# Altium integrated library TI_Logic_Universal_Bus_Function.IntLib: 113 symbols (part 2 of 5)
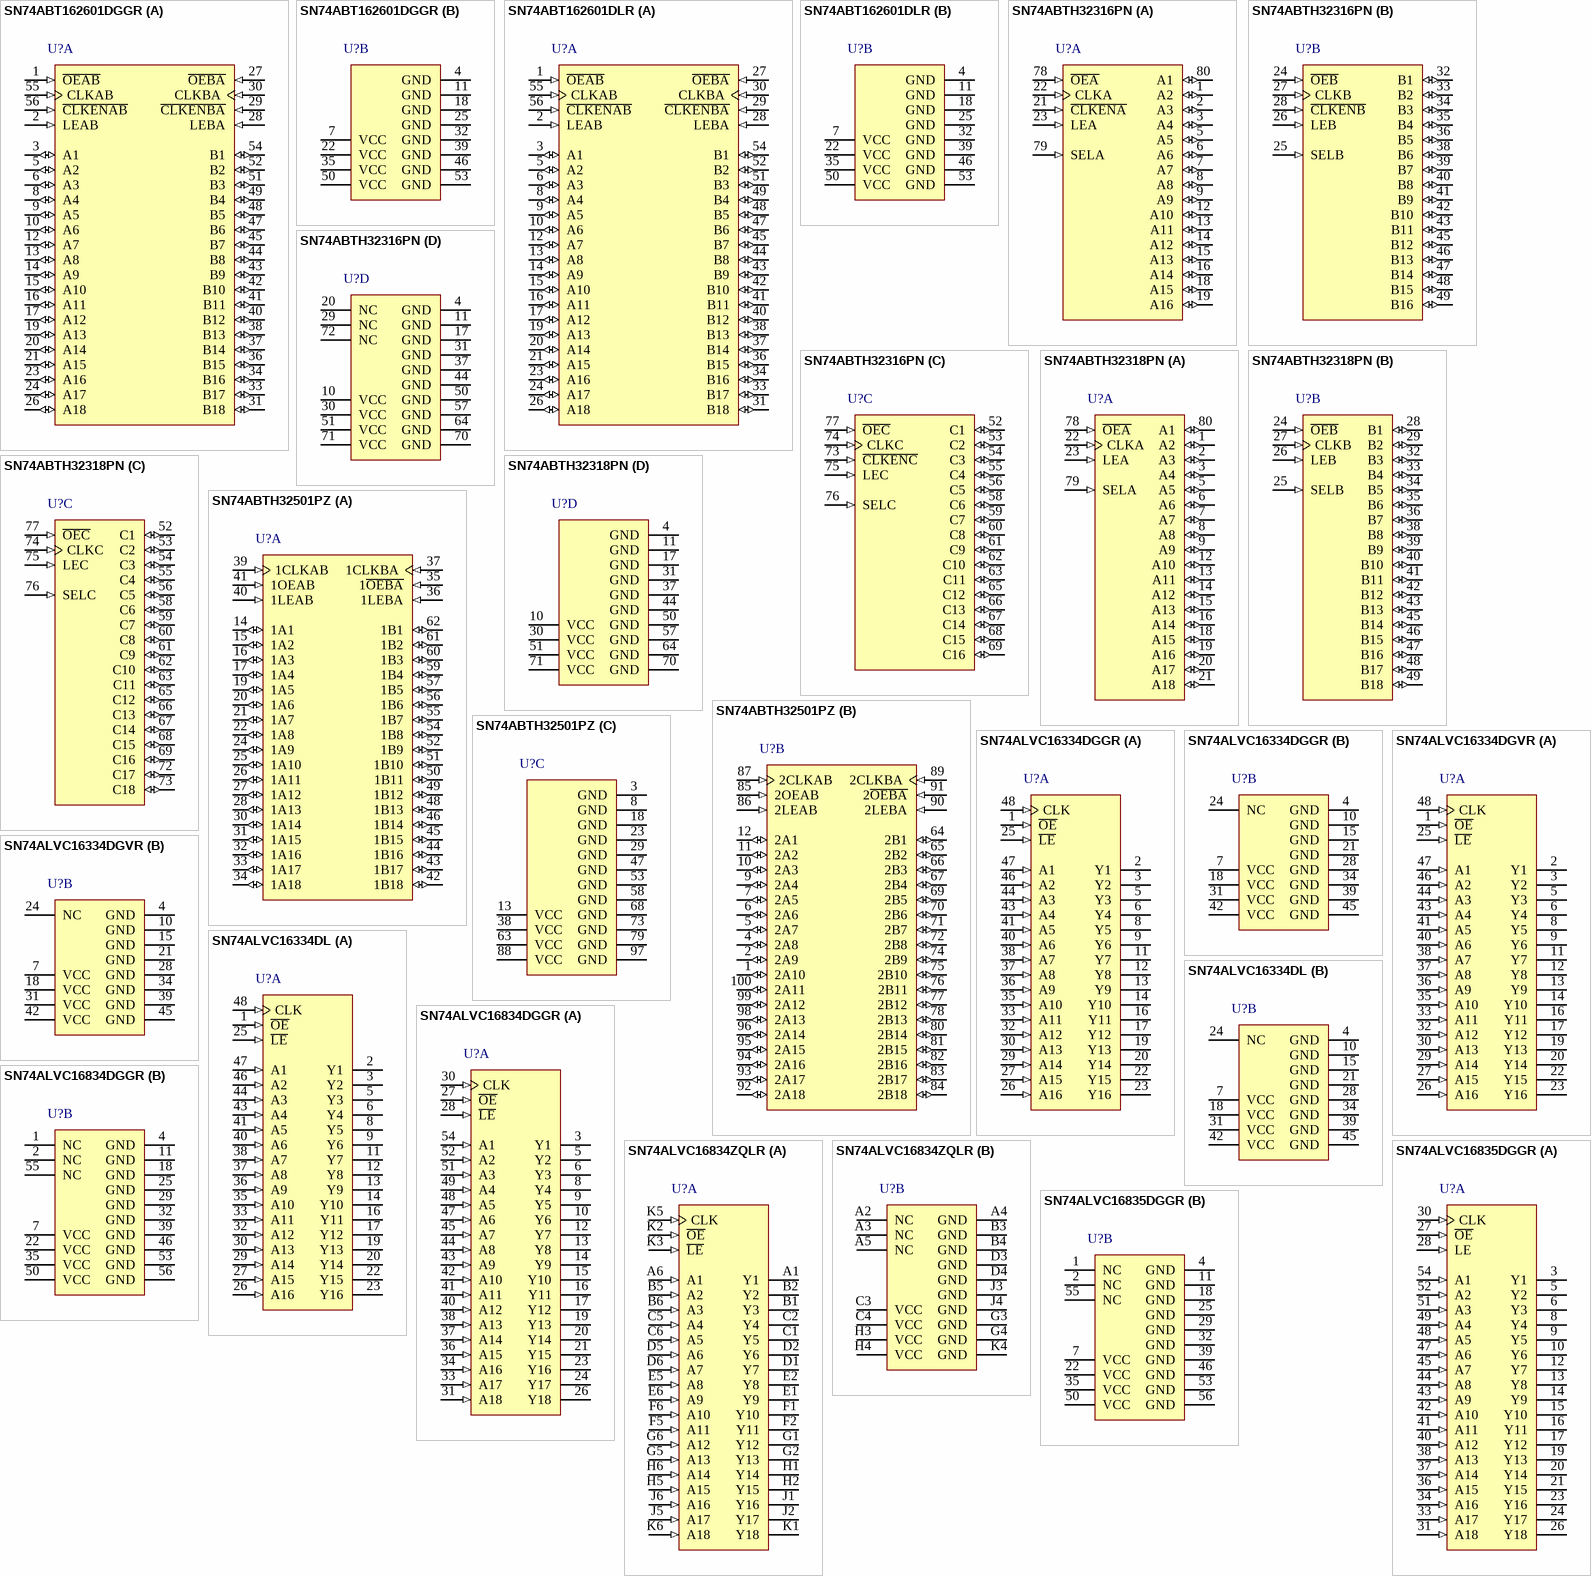
[diagram p10: symbols SN74ABT162601DGGR to SN74ALVC16835DGGR]

## SN74ABT162601DLR
designator U?
18-Bit Universal Bus Transceivers With 3-State Outputs, DL0056A, LARGE T&R; Generic Part Number: SN74ABT162601; Manufacturer: Texas Instruments; PartNumber: SN74ABT162601DLR; VCC(Min)(V): 4.5; VCC(Max)(V): 5.5; Output Type: TTL; Logic: True; Static Current: 19.5; ICC @ Nom Voltage(Max)(mA): 36; Bits(#): 18; F @ Nom Voltage(Max)(Mhz): 150; Rating: Catalog; Technology Family: ABT; Voltage(Nom)(V): 5; Schmitt Trigger: No; Output Drive (IOL/IOH)(Max)(mA): -32/64; tpd @ Nom Voltage(Max)(ns): 5.7; DatasheetVersion: SCBS247G; PackageReference: DL0056A; Supplier 1: Mouser; Supplier Part Number 1: 595-SN74ABT162601DLR; Supplier 2: Digi-Key; Supplier Part Number 2: 296-1028-2-ND; Supplier 3: Digi-Key; Supplier Part Number 3: 296-1028-1-ND; Supplier 4: Digi-Key; Supplier Part Number 4: 296-1028-6-ND; Input Type: TTL; Operating Temperature Range(C): -40 to 85; ComponentLink1Description: Manufacturer URL; ComponentLink1URL: http://www.ti.com/; ComponentLink2Description: Datasheet; ComponentLink2URL: http://www.ti.com/lit/ds/symlink/sn74abt162601.pdf
footprint DL0056A_N (SOP, 56-Leads, Body 7.6x18.5mm, Pitch 0.635mm, IPC Medium Density)
footprint DL0056A_M (SOP, 56-Leads, Body 7.6x18.5mm, Pitch 0.635mm, IPC Low Density)
footprint DL0056A_L (SOP, 56-Leads, Body 7.6x18.5mm, Pitch 0.635mm, IPC High Density)
part A pins: 1 ~{OEAB} (in), 2 LEAB (in), 3 A1 (io), 5 A2 (io), 6 A3 (io), 8 A4 (io), 9 A5 (io), 10 A6 (io), 12 A7 (io), 13 A8 (io), 14 A9 (io), 15 A10 (io), 16 A11 (io), 17 A12 (io), 19 A13 (io), 20 A14 (io), 21 A15 (io), 23 A16 (io), 24 A17 (io), 26 A18 (io), 27 ~{OEBA} (in), 28 LEBA (in), 29 ~{CLKENBA} (in), 30 CLKBA (in), 31 B18 (io), 33 B17 (io), 34 B16 (io), 36 B15 (io), 37 B14 (io), 38 B13 (io), 40 B12 (io), 41 B11 (io), 42 B10 (io), 43 B9 (io), 44 B8 (io), 45 B7 (io), 47 B6 (io), 48 B5 (io), 49 B4 (io), 51 B3 (io), 52 B2 (io), 54 B1 (io), 55 CLKAB (in), 56 ~{CLKENAB} (in)
part B pins: 4 GND (power), 7 VCC (power), 11 GND (power), 18 GND (power), 22 VCC (power), 25 GND (power), 32 GND (power), 35 VCC (power), 39 GND (power), 46 GND (power), 50 VCC (power), 53 GND (power)

## SN74ABTH32316PN
designator U?
16-Bit Tri-Port Universal Bus Exchangers, PN0080A, JEDEC TRAY (10+1); Generic Part Number: SN74ABTH32316; Manufacturer: Texas Instruments; PartNumber: SN74ABTH32316PN; VCC(Min)(V): 4.5; VCC(Max)(V): 5.5; Output Type: TTL; ICC @ Nom Voltage(Max)(mA): 40; Bits(#): 16; F @ Nom Voltage(Max)(Mhz): 150; Rating: Catalog; DatasheetVersion: SCBS179E; PackageReference: PN0080A; Input Type: TTL; Operating Temperature Range(C): -40 to 85; Code_JEDEC: MS-026; ComponentLink1Description: Manufacturer URL; ComponentLink1URL: http://www.ti.com/; ComponentLink2Description: Datasheet; ComponentLink2URL: http://www.ti.com/lit/ds/symlink/sn74abth32316.pdf; ComponentLink3Description: Package Specification; ComponentLink3URL: http://www.ti.com/lit/ml/mtqf010a/mtqf010a.pdf
footprint PN0080A_N (QFP, 80-Leads, Body 12x12mm, Pitch 0.5mm, IPC Medium Density)
footprint PN0080A_M (QFP, 80-Leads, Body 12x12mm, Pitch 0.5mm, IPC Low Density)
footprint PN0080A_L (QFP, 80-Leads, Body 12x12mm, Pitch 0.5mm, IPC High Density)
part A pins: 1 A2 (io), 2 A3 (io), 3 A4 (io), 5 A5 (io), 6 A6 (io), 7 A7 (io), 8 A8 (io), 9 A9 (io), 12 A10 (io), 13 A11 (io), 14 A12 (io), 15 A13 (io), 16 A14 (io), 18 A15 (io), 19 A16 (io), 21 ~{CLKENA} (in), 22 CLKA (in), 23 LEA (in), 78 ~{OEA} (in), 79 SELA (in), 80 A1 (io)
part B pins: 24 ~{OEB} (in), 25 SELB (in), 26 LEB (in), 27 CLKB (in), 28 ~{CLKENB} (in), 32 B1 (io), 33 B2 (io), 34 B3 (io), 35 B4 (io), 36 B5 (io), 38 B6 (io), 39 B7 (io), 40 B8 (io), 41 B9 (io), 42 B10 (io), 43 B11 (io), 45 B12 (io), 46 B13 (io), 47 B14 (io), 48 B15 (io), 49 B16 (io)
part C pins: 52 C1 (io), 53 C2 (io), 54 C3 (io), 55 C4 (io), 56 C5 (io), 58 C6 (io), 59 C7 (io), 60 C8 (io), 61 C9 (io), 62 C10 (io), 63 C11 (io), 65 C12 (io), 66 C13 (io), 67 C14 (io), 68 C15 (io), 69 C16 (io), 73 ~{CLKENC} (in), 74 CLKC (in), 75 LEC (in), 76 SELC (in), 77 ~{OEC} (in)
part D pins: 4 GND (power), 10 VCC (power), 11 GND (power), 17 GND (power), 20 NC, 29 NC, 30 VCC (power), 31 GND (power), 37 GND (power), 44 GND (power), 50 GND (power), 51 VCC (power), 57 GND (power), 64 GND (power), 70 GND (power), 71 VCC (power), 72 NC

## SN74ABTH32318PN
designator U?
18-Bit Tri-Port Universal Bus Exchanger, PN0080A, JEDEC TRAY (10+1); Generic Part Number: SN74ABTH32318; Manufacturer: Texas Instruments; PartNumber: SN74ABTH32318PN; VCC(Min)(V): 4.5; VCC(Max)(V): 5.5; Output Type: TTL; ICC @ Nom Voltage(Max)(mA): 45; Bits(#): 18; F @ Nom Voltage(Max)(Mhz): 150; Rating: Catalog; DatasheetVersion: SCBS180E; PackageReference: PN0080A; Input Type: TTL; Operating Temperature Range(C): -40 to 85; Code_JEDEC: MS-026; ComponentLink1Description: Manufacturer URL; ComponentLink1URL: http://www.ti.com/; ComponentLink2Description: Datasheet; ComponentLink2URL: http://www.ti.com/lit/ds/symlink/sn74abth32318.pdf; ComponentLink3Description: Package Specification; ComponentLink3URL: http://www.ti.com/lit/ml/mtqf010a/mtqf010a.pdf
footprint PN0080A_N (QFP, 80-Leads, Body 12x12mm, Pitch 0.5mm, IPC Medium Density)
footprint PN0080A_M (QFP, 80-Leads, Body 12x12mm, Pitch 0.5mm, IPC Low Density)
footprint PN0080A_L (QFP, 80-Leads, Body 12x12mm, Pitch 0.5mm, IPC High Density)
part A pins: 1 A2 (io), 2 A3 (io), 3 A4 (io), 5 A5 (io), 6 A6 (io), 7 A7 (io), 8 A8 (io), 9 A9 (io), 12 A10 (io), 13 A11 (io), 14 A12 (io), 15 A13 (io), 16 A14 (io), 18 A15 (io), 19 A16 (io), 20 A17 (io), 21 A18 (io), 22 CLKA (in), 23 LEA (in), 78 ~{OEA} (in), 79 SELA (in), 80 A1 (io)
part B pins: 24 ~{OEB} (in), 25 SELB (in), 26 LEB (in), 27 CLKB (in), 28 B1 (io), 29 B2 (io), 32 B3 (io), 33 B4 (io), 34 B5 (io), 35 B6 (io), 36 B7 (io), 38 B8 (io), 39 B9 (io), 40 B10 (io), 41 B11 (io), 42 B12 (io), 43 B13 (io), 45 B14 (io), 46 B15 (io), 47 B16 (io), 48 B17 (io), 49 B18 (io)
part C pins: 52 C1 (io), 53 C2 (io), 54 C3 (io), 55 C4 (io), 56 C5 (io), 58 C6 (io), 59 C7 (io), 60 C8 (io), 61 C9 (io), 62 C10 (io), 63 C11 (io), 65 C12 (io), 66 C13 (io), 67 C14 (io), 68 C15 (io), 69 C16 (io), 72 C17 (io), 73 C18 (io), 74 CLKC (in), 75 LEC (in), 76 SELC (in), 77 ~{OEC} (in)
part D pins: 4 GND (power), 10 VCC (power), 11 GND (power), 17 GND (power), 30 VCC (power), 31 GND (power), 37 GND (power), 44 GND (power), 50 GND (power), 51 VCC (power), 57 GND (power), 64 GND (power), 70 GND (power), 71 VCC (power)

## SN74ABTH32501PZ
designator U?
36-Bit Universal Bus Transceivers With 3-State Outputs, PZT0100A, JEDEC TRAY (5+1); Generic Part Number: SN74ABTH32501; Manufacturer: Texas Instruments; PartNumber: SN74ABTH32501PZ; Output Type: TTL; ICC @ Nom Voltage(Max)(mA): 90; Bits(#): 36; F @ Nom Voltage(Max)(Mhz): 150; Rating: Catalog; Technology Family: ABT; Voltage(Nom)(V): 5; Schmitt Trigger: No; Output Drive (IOL/IOH)(Max)(mA): -32/64; tpd @ Nom Voltage(Max)(ns): 5.4; DatasheetVersion: SCBS229F; PackageReference: PZT0100A; Supplier 1: Mouser; Supplier Part Number 1: 595-SN74ABTH32501PZ; Supplier 2: Digi-Key; Supplier Part Number 2: 296-1448-5-ND; Input Type: TTL; Operating Temperature Range(C): -40 to 85; ComponentLink1Description: Manufacturer URL; ComponentLink1URL: http://www.ti.com/; ComponentLink2Description: Datasheet; ComponentLink2URL: http://www.ti.com/lit/ds/symlink/sn74abth32501.pdf
footprint PZT0100A_N (QFP, 100-Leads, Body 14x14mm, Pitch 0.5mm, IPC Medium Density)
footprint PZT0100A_M (QFP, 100-Leads, Body 14x14mm, Pitch 0.5mm, IPC Low Density)
footprint PZT0100A_L (QFP, 100-Leads, Body 14x14mm, Pitch 0.5mm, IPC High Density)
part A pins: 14 1A1 (io), 15 1A2 (io), 16 1A3 (io), 17 1A4 (io), 19 1A5 (io), 20 1A6 (io), 21 1A7 (io), 22 1A8 (io), 24 1A9 (io), 25 1A10 (io), 26 1A11 (io), 27 1A12 (io), 28 1A13 (io), 30 1A14 (io), 31 1A15 (io), 32 1A16 (io), 33 1A17 (io), 34 1A18 (io), 35 1~{OEBA} (in), 36 1LEBA (in), 37 1CLKBA (in), 39 1CLKAB (in), 40 1LEAB (in), 41 1OEAB (in), 42 1B18 (io), 43 1B17 (io), 44 1B16 (io), 45 1B15 (io), 46 1B14 (io), 48 1B13 (io), 49 1B12 (io), 50 1B11 (io), 51 1B10 (io), 52 1B9 (io), 54 1B8 (io), 55 1B7 (io), 56 1B6 (io), 57 1B5 (io), 59 1B4 (io), 60 1B3 (io), 61 1B2 (io), 62 1B1 (io)
part B pins: 1 2A10 (io), 2 2A9 (io), 4 2A8 (io), 5 2A7 (io), 6 2A6 (io), 7 2A5 (io), 9 2A4 (io), 10 2A3 (io), 11 2A2 (io), 12 2A1 (io), 64 2B1 (io), 65 2B2 (io), 66 2B3 (io), 67 2B4 (io), 69 2B5 (io), 70 2B6 (io), 71 2B7 (io), 72 2B8 (io), 74 2B9 (io), 75 2B10 (io), 76 2B11 (io), 77 2B12 (io), 78 2B13 (io), 80 2B14 (io), 81 2B15 (io), 82 2B16 (io), 83 2B17 (io), 84 2B18 (io), 85 2OEAB (in), 86 2LEAB (in), 87 2CLKAB (in), 89 2CLKBA (in), 90 2LEBA (in), 91 2~{OEBA} (in), 92 2A18 (io), 93 2A17 (io), 94 2A16 (io), 95 2A15 (io), 96 2A14 (io), 98 2A13 (io), 99 2A12 (io), 100 2A11 (io)
part C pins: 3 GND (power), 8 GND (power), 13 VCC (power), 18 GND (power), 23 GND (power), 29 GND (power), 38 VCC (power), 47 GND (power), 53 GND (power), 58 GND (power), 63 VCC (power), 68 GND (power), 73 GND (power), 79 GND (power), 88 VCC (power), 97 GND (power)

## SN74ALVC16334DGGR
designator U?
16-Bit Universal Bus Driver With 3-State Outputs, DGG0048A, LARGE T&R; Generic Part Number: SN74ALVC16334; Manufacturer: Texas Instruments; PartNumber: SN74ALVC16334DGGR; VCC(Min)(V): 1.65; VCC(Max)(V): 3.6; Output Type: CMOS; ICC @ Nom Voltage(Max)(mA): 0.04; Bits(#): 16; F @ Nom Voltage(Max)(Mhz): 150; Rating: Catalog; Technology Family: ALVC; Voltage(Nom)(V): 1.8,2.5,2.7,3.3; DatasheetVersion: SCES128E; PackageReference: DGG0048A; Input Type: CMOS; Operating Temperature Range(C): -40 to 85; Code_JEDEC: MO-153; ComponentLink1Description: Manufacturer URL; ComponentLink1URL: http://www.ti.com/; ComponentLink2Description: Datasheet; ComponentLink2URL: http://www.ti.com/lit/ds/symlink/sn74alvc16334.pdf; ComponentLink3Description: Package Specification; ComponentLink3URL: http://www.ti.com/lit/ml/mtss003d/mtss003d.pdf
footprint DGG0048A_N (TSSOP, 48-Leads, Body 12.6x6.2mm, Pitch 0.5mm, IPC Medium Density)
footprint DGG0048A_M (TSSOP, 48-Leads, Body 12.6x6.2mm, Pitch 0.5mm, IPC Low Density)
footprint DGG0048A_L (TSSOP, 48-Leads, Body 12.6x6.2mm, Pitch 0.5mm, IPC High Density)
part A pins: 1 ~{OE} (in), 2 Y1 (hiz), 3 Y2 (hiz), 5 Y3 (hiz), 6 Y4 (hiz), 8 Y5 (hiz), 9 Y6 (hiz), 11 Y7 (hiz), 12 Y8 (hiz), 13 Y9 (hiz), 14 Y10 (hiz), 16 Y11 (hiz), 17 Y12 (hiz), 19 Y13 (hiz), 20 Y14 (hiz), 22 Y15 (hiz), 23 Y16 (hiz), 25 ~{LE} (in), 26 A16 (in), 27 A15 (in), 29 A14 (in), 30 A13 (in), 32 A12 (in), 33 A11 (in), 35 A10 (in), 36 A9 (in), 37 A8 (in), 38 A7 (in), 40 A6 (in), 41 A5 (in), 43 A4 (in), 44 A3 (in), 46 A2 (in), 47 A1 (in), 48 CLK (in)
part B pins: 4 GND (power), 7 VCC (power), 10 GND (power), 15 GND (power), 18 VCC (power), 21 GND (power), 24 NC, 28 GND (power), 31 VCC (power), 34 GND (power), 39 GND (power), 42 VCC (power), 45 GND (power)

## SN74ALVC16334DGVR
designator U?
16-Bit Universal Bus Driver With 3-State Outputs, DGV0048A, LARGE T&R; Generic Part Number: SN74ALVC16334; Manufacturer: Texas Instruments; PartNumber: SN74ALVC16334DGVR; VCC(Min)(V): 1.65; VCC(Max)(V): 3.6; Output Type: CMOS; ICC @ Nom Voltage(Max)(mA): 0.04; Bits(#): 16; F @ Nom Voltage(Max)(Mhz): 150; Rating: Catalog; Technology Family: ALVC; Voltage(Nom)(V): 1.8,2.5,2.7,3.3; DatasheetVersion: SCES128E; PackageReference: DGV0048A; Input Type: CMOS; Operating Temperature Range(C): -40 to 85; Code_JEDEC: MO-153; ComponentLink1Description: Manufacturer URL; ComponentLink1URL: http://www.ti.com/; ComponentLink2Description: Datasheet; ComponentLink2URL: http://www.ti.com/lit/ds/symlink/sn74alvc16334.pdf; ComponentLink3Description: Package Specification; ComponentLink3URL: http://www.ti.com/lit/ml/mpds006c/mpds006c.pdf
footprint DGV0048A_N (SOP, 48-Leads, Body 4.5x9.8mm, Pitch 0.4mm, IPC Medium Density)
footprint DGV0048A_M (SOP, 48-Leads, Body 4.5x9.8mm, Pitch 0.4mm, IPC Low Density)
footprint DGV0048A_L (SOP, 48-Leads, Body 4.5x9.8mm, Pitch 0.4mm, IPC High Density)
part A pins: 1 ~{OE} (in), 2 Y1 (hiz), 3 Y2 (hiz), 5 Y3 (hiz), 6 Y4 (hiz), 8 Y5 (hiz), 9 Y6 (hiz), 11 Y7 (hiz), 12 Y8 (hiz), 13 Y9 (hiz), 14 Y10 (hiz), 16 Y11 (hiz), 17 Y12 (hiz), 19 Y13 (hiz), 20 Y14 (hiz), 22 Y15 (hiz), 23 Y16 (hiz), 25 ~{LE} (in), 26 A16 (in), 27 A15 (in), 29 A14 (in), 30 A13 (in), 32 A12 (in), 33 A11 (in), 35 A10 (in), 36 A9 (in), 37 A8 (in), 38 A7 (in), 40 A6 (in), 41 A5 (in), 43 A4 (in), 44 A3 (in), 46 A2 (in), 47 A1 (in), 48 CLK (in)
part B pins: 4 GND (power), 7 VCC (power), 10 GND (power), 15 GND (power), 18 VCC (power), 21 GND (power), 24 NC, 28 GND (power), 31 VCC (power), 34 GND (power), 39 GND (power), 42 VCC (power), 45 GND (power)

## SN74ALVC16334DL
designator U?
16-Bit Universal Bus Driver With 3-State Outputs, DL0048A, TUBE; Generic Part Number: SN74ALVC16334; Manufacturer: Texas Instruments; PartNumber: SN74ALVC16334DL; VCC(Min)(V): 1.65; VCC(Max)(V): 3.6; Output Type: CMOS; ICC @ Nom Voltage(Max)(mA): 0.04; Bits(#): 16; F @ Nom Voltage(Max)(Mhz): 150; Rating: Catalog; Technology Family: ALVC; Voltage(Nom)(V): 1.8,2.5,2.7,3.3; DatasheetVersion: SCES128E; PackageReference: DL0048A; Input Type: CMOS; Operating Temperature Range(C): -40 to 85; Code_JEDEC: MO-118; ComponentLink1Description: Manufacturer URL; ComponentLink1URL: http://www.ti.com/; ComponentLink2Description: Datasheet; ComponentLink2URL: http://www.ti.com/lit/ds/symlink/sn74alvc16334.pdf; ComponentLink3Description: Package Specification; ComponentLink3URL: http://www.ti.com/lit/ml/mpds490/mpds490.pdf
footprint DL0048A_N (SOP, 48-Leads, Body 7.6x16mm, Pitch 0.635mm, IPC Medium Density)
footprint DL0048A_M (SOP, 48-Leads, Body 7.6x16mm, Pitch 0.635mm, IPC Low Density)
footprint DL0048A_L (SOP, 48-Leads, Body 7.6x16mm, Pitch 0.635mm, IPC High Density)
part A pins: 1 ~{OE} (in), 2 Y1 (hiz), 3 Y2 (hiz), 5 Y3 (hiz), 6 Y4 (hiz), 8 Y5 (hiz), 9 Y6 (hiz), 11 Y7 (hiz), 12 Y8 (hiz), 13 Y9 (hiz), 14 Y10 (hiz), 16 Y11 (hiz), 17 Y12 (hiz), 19 Y13 (hiz), 20 Y14 (hiz), 22 Y15 (hiz), 23 Y16 (hiz), 25 ~{LE} (in), 26 A16 (in), 27 A15 (in), 29 A14 (in), 30 A13 (in), 32 A12 (in), 33 A11 (in), 35 A10 (in), 36 A9 (in), 37 A8 (in), 38 A7 (in), 40 A6 (in), 41 A5 (in), 43 A4 (in), 44 A3 (in), 46 A2 (in), 47 A1 (in), 48 CLK (in)
part B pins: 4 GND (power), 7 VCC (power), 10 GND (power), 15 GND (power), 18 VCC (power), 21 GND (power), 24 NC, 28 GND (power), 31 VCC (power), 34 GND (power), 39 GND (power), 42 VCC (power), 45 GND (power)

## SN74ALVC16834DGGR
designator U?
18-Bit Universal Bus Driver With 3-State Outputs, DGG0056A, LARGE T&R; Generic Part Number: SN74ALVC16834; Manufacturer: Texas Instruments; PartNumber: SN74ALVC16834DGGR; VCC(Min)(V): 1.65; VCC(Max)(V): 3.6; Output Type: CMOS; ICC @ Nom Voltage(Max)(mA): 0.04; Bits(#): 18; F @ Nom Voltage(Max)(Mhz): 150; Rating: Catalog; Technology Family: ALVC; Voltage(Nom)(V): 1.8,2.5,2.7,3.3; DatasheetVersion: SCES140I; PackageReference: DGG0056A; Input Type: CMOS; Operating Temperature Range(C): -40 to 85; Code_JEDEC: MO-153; ComponentLink1Description: Manufacturer URL; ComponentLink1URL: http://www.ti.com/; ComponentLink2Description: Datasheet; ComponentLink2URL: http://www.ti.com/lit/ds/symlink/sn74alvc16834.pdf; ComponentLink3Description: Package Specification; ComponentLink3URL: http://www.ti.com/lit/ml/mtss003d/mtss003d.pdf
footprint DGG0056A_N (TSSOP, 56-Leads, Body 14.1x6.2mm, Pitch 0.5mm, IPC Medium Density)
footprint DGG0056A_M (TSSOP, 56-Leads, Body 14.1x6.2mm, Pitch 0.5mm, IPC Low Density)
footprint DGG0056A_L (TSSOP, 56-Leads, Body 14.1x6.2mm, Pitch 0.5mm, IPC High Density)
part A pins: 3 Y1 (hiz), 5 Y2 (hiz), 6 Y3 (hiz), 8 Y4 (hiz), 9 Y5 (hiz), 10 Y6 (hiz), 12 Y7 (hiz), 13 Y8 (hiz), 14 Y9 (hiz), 15 Y10 (hiz), 16 Y11 (hiz), 17 Y12 (hiz), 19 Y13 (hiz), 20 Y14 (hiz), 21 Y15 (hiz), 23 Y16 (hiz), 24 Y17 (hiz), 26 Y18 (hiz), 27 ~{OE} (in), 28 ~{LE} (in), 30 CLK (in), 31 A18 (in), 33 A17 (in), 34 A16 (in), 36 A15 (in), 37 A14 (in), 38 A13 (in), 40 A12 (in), 41 A11 (in), 42 A10 (in), 43 A9 (in), 44 A8 (in), 45 A7 (in), 47 A6 (in), 48 A5 (in), 49 A4 (in), 51 A3 (in), 52 A2 (in), 54 A1 (in)
part B pins: 1 NC, 2 NC, 4 GND (power), 7 VCC (power), 11 GND (power), 18 GND (power), 22 VCC (power), 25 GND (power), 29 GND (power), 32 GND (power), 35 VCC (power), 39 GND (power), 46 GND (power), 50 VCC (power), 53 GND (power), 55 NC, 56 GND (power)

## SN74ALVC16834ZQLR
designator U?
18-Bit Universal Bus Driver With 3-State Outputs, ZQL0056A, LARGE T&R; Generic Part Number: SN74ALVC16834; Manufacturer: Texas Instruments; PartNumber: SN74ALVC16834ZQLR; VCC(Min)(V): 1.65; VCC(Max)(V): 3.6; Output Type: CMOS; ICC @ Nom Voltage(Max)(mA): 0.04; Bits(#): 18; F @ Nom Voltage(Max)(Mhz): 150; Rating: Catalog; Technology Family: ALVC; Voltage(Nom)(V): 1.8,2.5,2.7,3.3; DatasheetVersion: SCES140I; PackageReference: ZQL0056A; Input Type: CMOS; Operating Temperature Range(C): -40 to 85; Code_JEDEC: MO-285; ComponentLink1Description: Manufacturer URL; ComponentLink1URL: http://www.ti.com/; ComponentLink2Description: Datasheet; ComponentLink2URL: http://www.ti.com/lit/ds/symlink/sn74alvc16834.pdf; ComponentLink3Description: Package Specification; ComponentLink3URL: http://www.ti.com/lit/ml/mpbg302g/mpbg302g.pdf
footprint ZQL0056A (BGA, 56-Balls, Body 7x4.5mm, Pitch 0.65mm)
part A pins: A1 Y1 (hiz), A6 A1 (in), B1 Y3 (hiz), B2 Y2 (hiz), B5 A2 (in), B6 A3 (in), C1 Y5 (hiz), C2 Y4 (hiz), C5 A4 (in), C6 A5 (in), D1 Y7 (hiz), D2 Y6 (hiz), D5 A6 (in), D6 A7 (in), E1 Y9 (hiz), E2 Y8 (hiz), E5 A8 (in), E6 A9 (in), F1 Y10 (hiz), F2 Y11 (hiz), F5 A11 (in), F6 A10 (in), G1 Y12 (hiz), G2 Y13 (hiz), G5 A13 (in), G6 A12 (in), H1 Y14 (hiz), H2 Y15 (hiz), H5 A15 (in), H6 A14 (in), J1 Y16 (hiz), J2 Y17 (hiz), J5 A17 (in), J6 A16 (in), K1 Y18 (hiz), K2 ~{OE} (in), K3 ~{LE} (in), K5 CLK (in), K6 A18 (in)
part B pins: A2 NC, A3 NC, A4 GND (power), A5 NC, B3 GND (power), B4 GND (power), C3 VCC (power), C4 VCC (power), D3 GND (power), D4 GND (power), G3 GND (power), G4 GND (power), H3 VCC (power), H4 VCC (power), J3 GND (power), J4 GND (power), K4 GND (power)

## SN74ALVC16835DGGR
designator U?
18-Bit Universal Bus Driver With 3-State Outputs, DGG0056A, LARGE T&R; Generic Part Number: SN74ALVC16835; Manufacturer: Texas Instruments; PartNumber: SN74ALVC16835DGGR; VCC(Min)(V): 1.65; VCC(Max)(V): 3.6; Output Type: CMOS; ICC @ Nom Voltage(Max)(mA): 0.04; Bits(#): 18; F @ Nom Voltage(Max)(Mhz): 150; Rating: Catalog; Technology Family: ALVC; Voltage(Nom)(V): 1.8,2.5,2.7,3.3; DatasheetVersion: SCES125J; PackageReference: DGG0056A; Input Type: CMOS; Operating Temperature Range(C): -40 to 85; Code_JEDEC: MO-153; ComponentLink1Description: Manufacturer URL; ComponentLink1URL: http://www.ti.com/; ComponentLink2Description: Datasheet; ComponentLink2URL: http://www.ti.com/lit/ds/symlink/sn74alvc16835.pdf; ComponentLink3Description: Package Specification; ComponentLink3URL: http://www.ti.com/lit/ml/mtss003d/mtss003d.pdf
footprint DGG0056A_N (TSSOP, 56-Leads, Body 14.1x6.2mm, Pitch 0.5mm, IPC Medium Density)
footprint DGG0056A_M (TSSOP, 56-Leads, Body 14.1x6.2mm, Pitch 0.5mm, IPC Low Density)
footprint DGG0056A_L (TSSOP, 56-Leads, Body 14.1x6.2mm, Pitch 0.5mm, IPC High Density)
part A pins: 3 Y1 (hiz), 5 Y2 (hiz), 6 Y3 (hiz), 8 Y4 (hiz), 9 Y5 (hiz), 10 Y6 (hiz), 12 Y7 (hiz), 13 Y8 (hiz), 14 Y9 (hiz), 15 Y10 (hiz), 16 Y11 (hiz), 17 Y12 (hiz), 19 Y13 (hiz), 20 Y14 (hiz), 21 Y15 (hiz), 23 Y16 (hiz), 24 Y17 (hiz), 26 Y18 (hiz), 27 ~{OE} (in), 28 LE (in), 30 CLK (in), 31 A18 (in), 33 A17 (in), 34 A16 (in), 36 A15 (in), 37 A14 (in), 38 A13 (in), 40 A12 (in), 41 A11 (in), 42 A10 (in), 43 A9 (in), 44 A8 (in), 45 A7 (in), 47 A6 (in), 48 A5 (in), 49 A4 (in), 51 A3 (in), 52 A2 (in), 54 A1 (in)
part B pins: 1 NC, 2 NC, 4 GND (power), 7 VCC (power), 11 GND (power), 18 GND (power), 22 VCC (power), 25 GND (power), 29 GND (power), 32 GND (power), 35 VCC (power), 39 GND (power), 46 GND (power), 50 VCC (power), 53 GND (power), 55 NC, 56 GND (power)

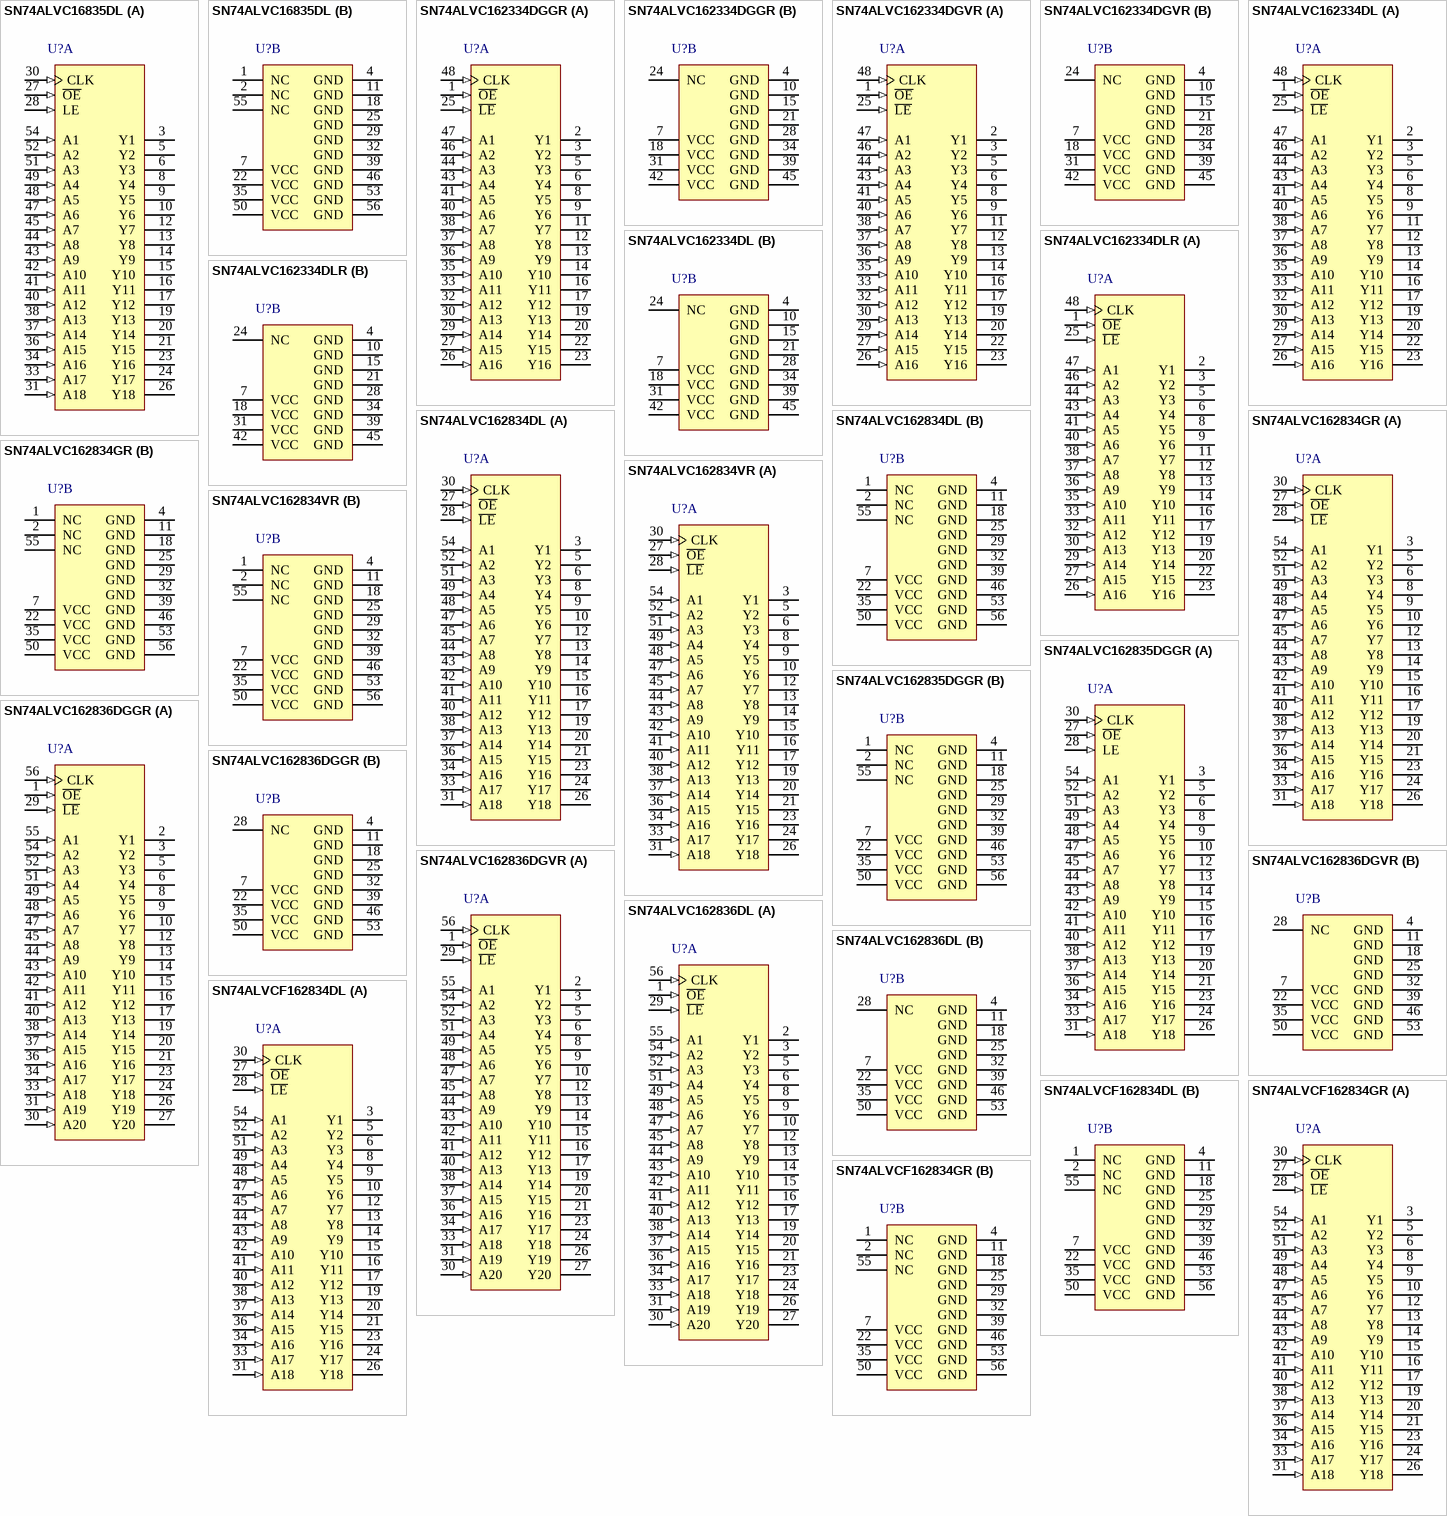
[diagram p3: symbols SN74ALVC16835DL to SN74ALVCF162834GR]

## SN74ALVC16835DL
designator U?
18-Bit Universal Bus Driver With 3-State Outputs, DL0056A, TUBE; Generic Part Number: SN74ALVC16835; Manufacturer: Texas Instruments; PartNumber: SN74ALVC16835DL; VCC(Min)(V): 1.65; VCC(Max)(V): 3.6; Output Type: CMOS; ICC @ Nom Voltage(Max)(mA): 0.04; Bits(#): 18; F @ Nom Voltage(Max)(Mhz): 150; Rating: Catalog; Technology Family: ALVC; Voltage(Nom)(V): 1.8,2.5,2.7,3.3; DatasheetVersion: SCES125J; PackageReference: DL0056A; Input Type: CMOS; Operating Temperature Range(C): -40 to 85; Code_JEDEC: MO-118; ComponentLink1Description: Manufacturer URL; ComponentLink1URL: http://www.ti.com/; ComponentLink2Description: Datasheet; ComponentLink2URL: http://www.ti.com/lit/ds/symlink/sn74alvc16835.pdf; ComponentLink3Description: Package Specification; ComponentLink3URL: http://www.ti.com/lit/ml/mpds491/mpds491.pdf
footprint DL0056A_N (SOP, 56-Leads, Body 7.6x18.5mm, Pitch 0.635mm, IPC Medium Density)
footprint DL0056A_M (SOP, 56-Leads, Body 7.6x18.5mm, Pitch 0.635mm, IPC Low Density)
footprint DL0056A_L (SOP, 56-Leads, Body 7.6x18.5mm, Pitch 0.635mm, IPC High Density)
part A pins: 3 Y1 (hiz), 5 Y2 (hiz), 6 Y3 (hiz), 8 Y4 (hiz), 9 Y5 (hiz), 10 Y6 (hiz), 12 Y7 (hiz), 13 Y8 (hiz), 14 Y9 (hiz), 15 Y10 (hiz), 16 Y11 (hiz), 17 Y12 (hiz), 19 Y13 (hiz), 20 Y14 (hiz), 21 Y15 (hiz), 23 Y16 (hiz), 24 Y17 (hiz), 26 Y18 (hiz), 27 ~{OE} (in), 28 LE (in), 30 CLK (in), 31 A18 (in), 33 A17 (in), 34 A16 (in), 36 A15 (in), 37 A14 (in), 38 A13 (in), 40 A12 (in), 41 A11 (in), 42 A10 (in), 43 A9 (in), 44 A8 (in), 45 A7 (in), 47 A6 (in), 48 A5 (in), 49 A4 (in), 51 A3 (in), 52 A2 (in), 54 A1 (in)
part B pins: 1 NC, 2 NC, 4 GND (power), 7 VCC (power), 11 GND (power), 18 GND (power), 22 VCC (power), 25 GND (power), 29 GND (power), 32 GND (power), 35 VCC (power), 39 GND (power), 46 GND (power), 50 VCC (power), 53 GND (power), 55 NC, 56 GND (power)

## SN74ALVC162334DGGR
designator U?
16-Bit Universal Bus Driver With 3-State Outputs, DGG0048A, LARGE T&R; Generic Part Number: SN74ALVC162334; Manufacturer: Texas Instruments; PartNumber: SN74ALVC162334DGGR; VCC(Min)(V): 1.65; VCC(Max)(V): 3.6; Output Type: CMOS; ICC @ Nom Voltage(Max)(mA): 0.04; Bits(#): 16; F @ Nom Voltage(Max)(Mhz): 150; Rating: Catalog; Technology Family: ALVC; Voltage(Nom)(V): 1.8,2.5,2.7,3.3; DatasheetVersion: SCES127E; PackageReference: DGG0048A; Input Type: CMOS; Operating Temperature Range(C): -40 to 85; Code_JEDEC: MO-153; ComponentLink1Description: Manufacturer URL; ComponentLink1URL: http://www.ti.com/; ComponentLink2Description: Datasheet; ComponentLink2URL: http://www.ti.com/lit/ds/symlink/sn74alvc162334.pdf; ComponentLink3Description: Package Specification; ComponentLink3URL: http://www.ti.com/lit/ml/mtss003d/mtss003d.pdf
footprint DGG0048A_N (TSSOP, 48-Leads, Body 12.6x6.2mm, Pitch 0.5mm, IPC Medium Density)
footprint DGG0048A_M (TSSOP, 48-Leads, Body 12.6x6.2mm, Pitch 0.5mm, IPC Low Density)
footprint DGG0048A_L (TSSOP, 48-Leads, Body 12.6x6.2mm, Pitch 0.5mm, IPC High Density)
part A pins: 1 ~{OE} (in), 2 Y1 (hiz), 3 Y2 (hiz), 5 Y3 (hiz), 6 Y4 (hiz), 8 Y5 (hiz), 9 Y6 (hiz), 11 Y7 (hiz), 12 Y8 (hiz), 13 Y9 (hiz), 14 Y10 (hiz), 16 Y11 (hiz), 17 Y12 (hiz), 19 Y13 (hiz), 20 Y14 (hiz), 22 Y15 (hiz), 23 Y16 (hiz), 25 ~{LE} (in), 26 A16 (in), 27 A15 (in), 29 A14 (in), 30 A13 (in), 32 A12 (in), 33 A11 (in), 35 A10 (in), 36 A9 (in), 37 A8 (in), 38 A7 (in), 40 A6 (in), 41 A5 (in), 43 A4 (in), 44 A3 (in), 46 A2 (in), 47 A1 (in), 48 CLK (in)
part B pins: 4 GND (power), 7 VCC (power), 10 GND (power), 15 GND (power), 18 VCC (power), 21 GND (power), 24 NC, 28 GND (power), 31 VCC (power), 34 GND (power), 39 GND (power), 42 VCC (power), 45 GND (power)

## SN74ALVC162334DGVR
designator U?
16-Bit Universal Bus Driver With 3-State Outputs, DGV0048A, LARGE T&R; Generic Part Number: SN74ALVC162334; Manufacturer: Texas Instruments; PartNumber: SN74ALVC162334DGVR; VCC(Min)(V): 1.65; VCC(Max)(V): 3.6; Output Type: CMOS; ICC @ Nom Voltage(Max)(mA): 0.04; Bits(#): 16; F @ Nom Voltage(Max)(Mhz): 150; Rating: Catalog; Technology Family: ALVC; Voltage(Nom)(V): 1.8,2.5,2.7,3.3; DatasheetVersion: SCES127E; PackageReference: DGV0048A; Input Type: CMOS; Operating Temperature Range(C): -40 to 85; Code_JEDEC: MO-153; ComponentLink1Description: Manufacturer URL; ComponentLink1URL: http://www.ti.com/; ComponentLink2Description: Datasheet; ComponentLink2URL: http://www.ti.com/lit/ds/symlink/sn74alvc162334.pdf; ComponentLink3Description: Package Specification; ComponentLink3URL: http://www.ti.com/lit/ml/mpds006c/mpds006c.pdf
footprint DGV0048A_N (SOP, 48-Leads, Body 4.5x9.8mm, Pitch 0.4mm, IPC Medium Density)
footprint DGV0048A_M (SOP, 48-Leads, Body 4.5x9.8mm, Pitch 0.4mm, IPC Low Density)
footprint DGV0048A_L (SOP, 48-Leads, Body 4.5x9.8mm, Pitch 0.4mm, IPC High Density)
part A pins: 1 ~{OE} (in), 2 Y1 (hiz), 3 Y2 (hiz), 5 Y3 (hiz), 6 Y4 (hiz), 8 Y5 (hiz), 9 Y6 (hiz), 11 Y7 (hiz), 12 Y8 (hiz), 13 Y9 (hiz), 14 Y10 (hiz), 16 Y11 (hiz), 17 Y12 (hiz), 19 Y13 (hiz), 20 Y14 (hiz), 22 Y15 (hiz), 23 Y16 (hiz), 25 ~{LE} (in), 26 A16 (in), 27 A15 (in), 29 A14 (in), 30 A13 (in), 32 A12 (in), 33 A11 (in), 35 A10 (in), 36 A9 (in), 37 A8 (in), 38 A7 (in), 40 A6 (in), 41 A5 (in), 43 A4 (in), 44 A3 (in), 46 A2 (in), 47 A1 (in), 48 CLK (in)
part B pins: 4 GND (power), 7 VCC (power), 10 GND (power), 15 GND (power), 18 VCC (power), 21 GND (power), 24 NC, 28 GND (power), 31 VCC (power), 34 GND (power), 39 GND (power), 42 VCC (power), 45 GND (power)

## SN74ALVC162334DL
designator U?
16-Bit Universal Bus Driver With 3-State Outputs, DL0048A, TUBE; Generic Part Number: SN74ALVC162334; Manufacturer: Texas Instruments; PartNumber: SN74ALVC162334DL; VCC(Min)(V): 1.65; VCC(Max)(V): 3.6; Output Type: CMOS; ICC @ Nom Voltage(Max)(mA): 0.04; Bits(#): 16; F @ Nom Voltage(Max)(Mhz): 150; Rating: Catalog; Technology Family: ALVC; Voltage(Nom)(V): 1.8,2.5,2.7,3.3; DatasheetVersion: SCES127E; PackageReference: DL0048A; Input Type: CMOS; Operating Temperature Range(C): -40 to 85; Code_JEDEC: MO-118; ComponentLink1Description: Manufacturer URL; ComponentLink1URL: http://www.ti.com/; ComponentLink2Description: Datasheet; ComponentLink2URL: http://www.ti.com/lit/ds/symlink/sn74alvc162334.pdf; ComponentLink3Description: Package Specification; ComponentLink3URL: http://www.ti.com/lit/ml/mpds490/mpds490.pdf
footprint DL0048A_N (SOP, 48-Leads, Body 7.6x16mm, Pitch 0.635mm, IPC Medium Density)
footprint DL0048A_M (SOP, 48-Leads, Body 7.6x16mm, Pitch 0.635mm, IPC Low Density)
footprint DL0048A_L (SOP, 48-Leads, Body 7.6x16mm, Pitch 0.635mm, IPC High Density)
part A pins: 1 ~{OE} (in), 2 Y1 (hiz), 3 Y2 (hiz), 5 Y3 (hiz), 6 Y4 (hiz), 8 Y5 (hiz), 9 Y6 (hiz), 11 Y7 (hiz), 12 Y8 (hiz), 13 Y9 (hiz), 14 Y10 (hiz), 16 Y11 (hiz), 17 Y12 (hiz), 19 Y13 (hiz), 20 Y14 (hiz), 22 Y15 (hiz), 23 Y16 (hiz), 25 ~{LE} (in), 26 A16 (in), 27 A15 (in), 29 A14 (in), 30 A13 (in), 32 A12 (in), 33 A11 (in), 35 A10 (in), 36 A9 (in), 37 A8 (in), 38 A7 (in), 40 A6 (in), 41 A5 (in), 43 A4 (in), 44 A3 (in), 46 A2 (in), 47 A1 (in), 48 CLK (in)
part B pins: 4 GND (power), 7 VCC (power), 10 GND (power), 15 GND (power), 18 VCC (power), 21 GND (power), 24 NC, 28 GND (power), 31 VCC (power), 34 GND (power), 39 GND (power), 42 VCC (power), 45 GND (power)

## SN74ALVC162334DLR
designator U?
16-Bit Universal Bus Driver With 3-State Outputs, DL0048A, LARGE T&R; Generic Part Number: SN74ALVC162334; Manufacturer: Texas Instruments; PartNumber: SN74ALVC162334DLR; VCC(Min)(V): 1.65; VCC(Max)(V): 3.6; Output Type: CMOS; ICC @ Nom Voltage(Max)(mA): 0.04; Bits(#): 16; F @ Nom Voltage(Max)(Mhz): 150; Rating: Catalog; Technology Family: ALVC; Voltage(Nom)(V): 1.8,2.5,2.7,3.3; DatasheetVersion: SCES127E; PackageReference: DL0048A; Input Type: CMOS; Operating Temperature Range(C): -40 to 85; Code_JEDEC: MO-118; ComponentLink1Description: Manufacturer URL; ComponentLink1URL: http://www.ti.com/; ComponentLink2Description: Datasheet; ComponentLink2URL: http://www.ti.com/lit/ds/symlink/sn74alvc162334.pdf; ComponentLink3Description: Package Specification; ComponentLink3URL: http://www.ti.com/lit/ml/mpds490/mpds490.pdf
footprint DL0048A_N (SOP, 48-Leads, Body 7.6x16mm, Pitch 0.635mm, IPC Medium Density)
footprint DL0048A_M (SOP, 48-Leads, Body 7.6x16mm, Pitch 0.635mm, IPC Low Density)
footprint DL0048A_L (SOP, 48-Leads, Body 7.6x16mm, Pitch 0.635mm, IPC High Density)
part A pins: 1 ~{OE} (in), 2 Y1 (hiz), 3 Y2 (hiz), 5 Y3 (hiz), 6 Y4 (hiz), 8 Y5 (hiz), 9 Y6 (hiz), 11 Y7 (hiz), 12 Y8 (hiz), 13 Y9 (hiz), 14 Y10 (hiz), 16 Y11 (hiz), 17 Y12 (hiz), 19 Y13 (hiz), 20 Y14 (hiz), 22 Y15 (hiz), 23 Y16 (hiz), 25 ~{LE} (in), 26 A16 (in), 27 A15 (in), 29 A14 (in), 30 A13 (in), 32 A12 (in), 33 A11 (in), 35 A10 (in), 36 A9 (in), 37 A8 (in), 38 A7 (in), 40 A6 (in), 41 A5 (in), 43 A4 (in), 44 A3 (in), 46 A2 (in), 47 A1 (in), 48 CLK (in)
part B pins: 4 GND (power), 7 VCC (power), 10 GND (power), 15 GND (power), 18 VCC (power), 21 GND (power), 24 NC, 28 GND (power), 31 VCC (power), 34 GND (power), 39 GND (power), 42 VCC (power), 45 GND (power)

## SN74ALVC162834DL
designator U?
18-Bit Universal Bus Driver With 3-State Outputs, DL0056A, TUBE; Generic Part Number: SN74ALVC162834; Manufacturer: Texas Instruments; PartNumber: SN74ALVC162834DL; VCC(Min)(V): 1.65; VCC(Max)(V): 3.6; Output Type: CMOS; ICC @ Nom Voltage(Max)(mA): 0.04; Bits(#): 18; F @ Nom Voltage(Max)(Mhz): 150; Rating: Catalog; Technology Family: ALVC; Voltage(Nom)(V): 1.8,2.5,2.7,3.3; DatasheetVersion: SCES172D; PackageReference: DL0056A; Input Type: CMOS; Operating Temperature Range(C): -40 to 85; Code_JEDEC: MO-118; ComponentLink1Description: Manufacturer URL; ComponentLink1URL: http://www.ti.com/; ComponentLink2Description: Datasheet; ComponentLink2URL: http://www.ti.com/lit/ds/symlink/sn74alvc162834.pdf; ComponentLink3Description: Package Specification; ComponentLink3URL: http://www.ti.com/lit/ml/mpds491/mpds491.pdf
footprint DL0056A_N (SOP, 56-Leads, Body 7.6x18.5mm, Pitch 0.635mm, IPC Medium Density)
footprint DL0056A_M (SOP, 56-Leads, Body 7.6x18.5mm, Pitch 0.635mm, IPC Low Density)
footprint DL0056A_L (SOP, 56-Leads, Body 7.6x18.5mm, Pitch 0.635mm, IPC High Density)
part A pins: 3 Y1 (hiz), 5 Y2 (hiz), 6 Y3 (hiz), 8 Y4 (hiz), 9 Y5 (hiz), 10 Y6 (hiz), 12 Y7 (hiz), 13 Y8 (hiz), 14 Y9 (hiz), 15 Y10 (hiz), 16 Y11 (hiz), 17 Y12 (hiz), 19 Y13 (hiz), 20 Y14 (hiz), 21 Y15 (hiz), 23 Y16 (hiz), 24 Y17 (hiz), 26 Y18 (hiz), 27 ~{OE} (in), 28 ~{LE} (in), 30 CLK (in), 31 A18 (in), 33 A17 (in), 34 A16 (in), 36 A15 (in), 37 A14 (in), 38 A13 (in), 40 A12 (in), 41 A11 (in), 42 A10 (in), 43 A9 (in), 44 A8 (in), 45 A7 (in), 47 A6 (in), 48 A5 (in), 49 A4 (in), 51 A3 (in), 52 A2 (in), 54 A1 (in)
part B pins: 1 NC, 2 NC, 4 GND (power), 7 VCC (power), 11 GND (power), 18 GND (power), 22 VCC (power), 25 GND (power), 29 GND (power), 32 GND (power), 35 VCC (power), 39 GND (power), 46 GND (power), 50 VCC (power), 53 GND (power), 55 NC, 56 GND (power)

## SN74ALVC162834GR
designator U?
18-Bit Universal Bus Driver With 3-State Outputs, DGG0056A, LARGE T&R; Generic Part Number: SN74ALVC162834; Manufacturer: Texas Instruments; PartNumber: SN74ALVC162834GR; VCC(Min)(V): 1.65; VCC(Max)(V): 3.6; Output Type: CMOS; ICC @ Nom Voltage(Max)(mA): 0.04; Bits(#): 18; F @ Nom Voltage(Max)(Mhz): 150; Rating: Catalog; Technology Family: ALVC; Voltage(Nom)(V): 1.8,2.5,2.7,3.3; DatasheetVersion: SCES172D; PackageReference: DGG0056A; Input Type: CMOS; Operating Temperature Range(C): -40 to 85; Code_JEDEC: MO-153; ComponentLink1Description: Manufacturer URL; ComponentLink1URL: http://www.ti.com/; ComponentLink2Description: Datasheet; ComponentLink2URL: http://www.ti.com/lit/ds/symlink/sn74alvc162834.pdf; ComponentLink3Description: Package Specification; ComponentLink3URL: http://www.ti.com/lit/ml/mtss003d/mtss003d.pdf
footprint DGG0056A_N (TSSOP, 56-Leads, Body 14.1x6.2mm, Pitch 0.5mm, IPC Medium Density)
footprint DGG0056A_M (TSSOP, 56-Leads, Body 14.1x6.2mm, Pitch 0.5mm, IPC Low Density)
footprint DGG0056A_L (TSSOP, 56-Leads, Body 14.1x6.2mm, Pitch 0.5mm, IPC High Density)
part A pins: 3 Y1 (hiz), 5 Y2 (hiz), 6 Y3 (hiz), 8 Y4 (hiz), 9 Y5 (hiz), 10 Y6 (hiz), 12 Y7 (hiz), 13 Y8 (hiz), 14 Y9 (hiz), 15 Y10 (hiz), 16 Y11 (hiz), 17 Y12 (hiz), 19 Y13 (hiz), 20 Y14 (hiz), 21 Y15 (hiz), 23 Y16 (hiz), 24 Y17 (hiz), 26 Y18 (hiz), 27 ~{OE} (in), 28 ~{LE} (in), 30 CLK (in), 31 A18 (in), 33 A17 (in), 34 A16 (in), 36 A15 (in), 37 A14 (in), 38 A13 (in), 40 A12 (in), 41 A11 (in), 42 A10 (in), 43 A9 (in), 44 A8 (in), 45 A7 (in), 47 A6 (in), 48 A5 (in), 49 A4 (in), 51 A3 (in), 52 A2 (in), 54 A1 (in)
part B pins: 1 NC, 2 NC, 4 GND (power), 7 VCC (power), 11 GND (power), 18 GND (power), 22 VCC (power), 25 GND (power), 29 GND (power), 32 GND (power), 35 VCC (power), 39 GND (power), 46 GND (power), 50 VCC (power), 53 GND (power), 55 NC, 56 GND (power)

## SN74ALVC162834VR
designator U?
18-Bit Universal Bus Driver With 3-State Outputs, DGV0056A, LARGE T&R; Generic Part Number: SN74ALVC162834; Manufacturer: Texas Instruments; PartNumber: SN74ALVC162834VR; VCC(Min)(V): 1.65; VCC(Max)(V): 3.6; Output Type: CMOS; ICC @ Nom Voltage(Max)(mA): 0.04; Bits(#): 18; F @ Nom Voltage(Max)(Mhz): 150; Rating: Catalog; Technology Family: ALVC; Voltage(Nom)(V): 1.8,2.5,2.7,3.3; DatasheetVersion: SCES172D; PackageReference: DGV0056A; Input Type: CMOS; Operating Temperature Range(C): -40 to 85; Code_JEDEC: MO-194; ComponentLink1Description: Manufacturer URL; ComponentLink1URL: http://www.ti.com/; ComponentLink2Description: Datasheet; ComponentLink2URL: http://www.ti.com/lit/ds/symlink/sn74alvc162834.pdf; ComponentLink3Description: Package Specification; ComponentLink3URL: http://www.ti.com/lit/ml/mpds006c/mpds006c.pdf
footprint DGV0056A_N (SOP, 56-Leads, Body 4.5x11.4mm, Pitch 0.4mm, IPC Medium Density)
footprint DGV0056A_M (SOP, 56-Leads, Body 4.5x11.4mm, Pitch 0.4mm, IPC Low Density)
footprint DGV0056A_L (SOP, 56-Leads, Body 4.5x11.4mm, Pitch 0.4mm, IPC High Density)
part A pins: 3 Y1 (hiz), 5 Y2 (hiz), 6 Y3 (hiz), 8 Y4 (hiz), 9 Y5 (hiz), 10 Y6 (hiz), 12 Y7 (hiz), 13 Y8 (hiz), 14 Y9 (hiz), 15 Y10 (hiz), 16 Y11 (hiz), 17 Y12 (hiz), 19 Y13 (hiz), 20 Y14 (hiz), 21 Y15 (hiz), 23 Y16 (hiz), 24 Y17 (hiz), 26 Y18 (hiz), 27 ~{OE} (in), 28 ~{LE} (in), 30 CLK (in), 31 A18 (in), 33 A17 (in), 34 A16 (in), 36 A15 (in), 37 A14 (in), 38 A13 (in), 40 A12 (in), 41 A11 (in), 42 A10 (in), 43 A9 (in), 44 A8 (in), 45 A7 (in), 47 A6 (in), 48 A5 (in), 49 A4 (in), 51 A3 (in), 52 A2 (in), 54 A1 (in)
part B pins: 1 NC, 2 NC, 4 GND (power), 7 VCC (power), 11 GND (power), 18 GND (power), 22 VCC (power), 25 GND (power), 29 GND (power), 32 GND (power), 35 VCC (power), 39 GND (power), 46 GND (power), 50 VCC (power), 53 GND (power), 55 NC, 56 GND (power)

## SN74ALVC162835DGGR
designator U?
18-Bit Universal Bus Driver With 3-State Outputs, DGG0056A, LARGE T&R; Generic Part Number: SN74ALVC162835; Manufacturer: Texas Instruments; PartNumber: SN74ALVC162835DGGR; VCC(Min)(V): 1.65; VCC(Max)(V): 3.6; Output Type: CMOS; ICC @ Nom Voltage(Max)(mA): 0.04; Bits(#): 18; F @ Nom Voltage(Max)(Mhz): 150; Rating: Catalog; Technology Family: ALVC; Voltage(Nom)(V): 1.8,2.5,2.7,3.3; DatasheetVersion: SCES126H; PackageReference: DGG0056A; Input Type: CMOS; Operating Temperature Range(C): -40 to 85; Code_JEDEC: MO-153; ComponentLink1Description: Manufacturer URL; ComponentLink1URL: http://www.ti.com/; ComponentLink2Description: Datasheet; ComponentLink2URL: http://www.ti.com/lit/ds/symlink/sn74alvc162835.pdf; ComponentLink3Description: Package Specification; ComponentLink3URL: http://www.ti.com/lit/ml/mtss003d/mtss003d.pdf
footprint DGG0056A_N (TSSOP, 56-Leads, Body 14.1x6.2mm, Pitch 0.5mm, IPC Medium Density)
footprint DGG0056A_M (TSSOP, 56-Leads, Body 14.1x6.2mm, Pitch 0.5mm, IPC Low Density)
footprint DGG0056A_L (TSSOP, 56-Leads, Body 14.1x6.2mm, Pitch 0.5mm, IPC High Density)
part A pins: 3 Y1 (hiz), 5 Y2 (hiz), 6 Y3 (hiz), 8 Y4 (hiz), 9 Y5 (hiz), 10 Y6 (hiz), 12 Y7 (hiz), 13 Y8 (hiz), 14 Y9 (hiz), 15 Y10 (hiz), 16 Y11 (hiz), 17 Y12 (hiz), 19 Y13 (hiz), 20 Y14 (hiz), 21 Y15 (hiz), 23 Y16 (hiz), 24 Y17 (hiz), 26 Y18 (hiz), 27 ~{OE} (in), 28 LE (in), 30 CLK (in), 31 A18 (in), 33 A17 (in), 34 A16 (in), 36 A15 (in), 37 A14 (in), 38 A13 (in), 40 A12 (in), 41 A11 (in), 42 A10 (in), 43 A9 (in), 44 A8 (in), 45 A7 (in), 47 A6 (in), 48 A5 (in), 49 A4 (in), 51 A3 (in), 52 A2 (in), 54 A1 (in)
part B pins: 1 NC, 2 NC, 4 GND (power), 7 VCC (power), 11 GND (power), 18 GND (power), 22 VCC (power), 25 GND (power), 29 GND (power), 32 GND (power), 35 VCC (power), 39 GND (power), 46 GND (power), 50 VCC (power), 53 GND (power), 55 NC, 56 GND (power)

## SN74ALVC162836DGGR
designator U?
20-Bit Universal Bus Driver With 3-State Outputs, DGG0056A, LARGE T&R; Generic Part Number: SN74ALVC162836; Manufacturer: Texas Instruments; PartNumber: SN74ALVC162836DGGR; VCC(Min)(V): 1.65; VCC(Max)(V): 3.6; Output Type: CMOS; ICC @ Nom Voltage(Max)(mA): 0.04; Bits(#): 20; F @ Nom Voltage(Max)(Mhz): 150; Rating: Catalog; Technology Family: ALVC; Voltage(Nom)(V): 1.8,2.5,2.7,3.3; DatasheetVersion: SCES129E; PackageReference: DGG0056A; Input Type: CMOS; Operating Temperature Range(C): -40 to 85; Code_JEDEC: MO-153; ComponentLink1Description: Manufacturer URL; ComponentLink1URL: http://www.ti.com/; ComponentLink2Description: Datasheet; ComponentLink2URL: http://www.ti.com/lit/ds/symlink/sn74alvc162836.pdf; ComponentLink3Description: Package Specification; ComponentLink3URL: http://www.ti.com/lit/ml/mtss003d/mtss003d.pdf
footprint DGG0056A_N (TSSOP, 56-Leads, Body 14.1x6.2mm, Pitch 0.5mm, IPC Medium Density)
footprint DGG0056A_M (TSSOP, 56-Leads, Body 14.1x6.2mm, Pitch 0.5mm, IPC Low Density)
footprint DGG0056A_L (TSSOP, 56-Leads, Body 14.1x6.2mm, Pitch 0.5mm, IPC High Density)
part A pins: 1 ~{OE} (in), 2 Y1 (hiz), 3 Y2 (hiz), 5 Y3 (hiz), 6 Y4 (hiz), 8 Y5 (hiz), 9 Y6 (hiz), 10 Y7 (hiz), 12 Y8 (hiz), 13 Y9 (hiz), 14 Y10 (hiz), 15 Y11 (hiz), 16 Y12 (hiz), 17 Y13 (hiz), 19 Y14 (hiz), 20 Y15 (hiz), 21 Y16 (hiz), 23 Y17 (hiz), 24 Y18 (hiz), 26 Y19 (hiz), 27 Y20 (hiz), 29 ~{LE} (in), 30 A20 (in), 31 A19 (in), 33 A18 (in), 34 A17 (in), 36 A16 (in), 37 A15 (in), 38 A14 (in), 40 A13 (in), 41 A12 (in), 42 A11 (in), 43 A10 (in), 44 A9 (in), 45 A8 (in), 47 A7 (in), 48 A6 (in), 49 A5 (in), 51 A4 (in), 52 A3 (in), 54 A2 (in), 55 A1 (in), 56 CLK (in)
part B pins: 4 GND (power), 7 VCC (power), 11 GND (power), 18 GND (power), 22 VCC (power), 25 GND (power), 28 NC, 32 GND (power), 35 VCC (power), 39 GND (power), 46 GND (power), 50 VCC (power), 53 GND (power)

## SN74ALVC162836DGVR
designator U?
20-Bit Universal Bus Driver With 3-State Outputs, DGV0056A, LARGE T&R; Generic Part Number: SN74ALVC162836; Manufacturer: Texas Instruments; PartNumber: SN74ALVC162836DGVR; VCC(Min)(V): 1.65; VCC(Max)(V): 3.6; Output Type: CMOS; ICC @ Nom Voltage(Max)(mA): 0.04; Bits(#): 20; F @ Nom Voltage(Max)(Mhz): 150; Rating: Catalog; Technology Family: ALVC; Voltage(Nom)(V): 1.8,2.5,2.7,3.3; DatasheetVersion: SCES129E; PackageReference: DGV0056A; Input Type: CMOS; Operating Temperature Range(C): -40 to 85; Code_JEDEC: MO-194; ComponentLink1Description: Manufacturer URL; ComponentLink1URL: http://www.ti.com/; ComponentLink2Description: Datasheet; ComponentLink2URL: http://www.ti.com/lit/ds/symlink/sn74alvc162836.pdf; ComponentLink3Description: Package Specification; ComponentLink3URL: http://www.ti.com/lit/ml/mpds006c/mpds006c.pdf
footprint DGV0056A_N (SOP, 56-Leads, Body 4.5x11.4mm, Pitch 0.4mm, IPC Medium Density)
footprint DGV0056A_M (SOP, 56-Leads, Body 4.5x11.4mm, Pitch 0.4mm, IPC Low Density)
footprint DGV0056A_L (SOP, 56-Leads, Body 4.5x11.4mm, Pitch 0.4mm, IPC High Density)
part A pins: 1 ~{OE} (in), 2 Y1 (hiz), 3 Y2 (hiz), 5 Y3 (hiz), 6 Y4 (hiz), 8 Y5 (hiz), 9 Y6 (hiz), 10 Y7 (hiz), 12 Y8 (hiz), 13 Y9 (hiz), 14 Y10 (hiz), 15 Y11 (hiz), 16 Y12 (hiz), 17 Y13 (hiz), 19 Y14 (hiz), 20 Y15 (hiz), 21 Y16 (hiz), 23 Y17 (hiz), 24 Y18 (hiz), 26 Y19 (hiz), 27 Y20 (hiz), 29 ~{LE} (in), 30 A20 (in), 31 A19 (in), 33 A18 (in), 34 A17 (in), 36 A16 (in), 37 A15 (in), 38 A14 (in), 40 A13 (in), 41 A12 (in), 42 A11 (in), 43 A10 (in), 44 A9 (in), 45 A8 (in), 47 A7 (in), 48 A6 (in), 49 A5 (in), 51 A4 (in), 52 A3 (in), 54 A2 (in), 55 A1 (in), 56 CLK (in)
part B pins: 4 GND (power), 7 VCC (power), 11 GND (power), 18 GND (power), 22 VCC (power), 25 GND (power), 28 NC, 32 GND (power), 35 VCC (power), 39 GND (power), 46 GND (power), 50 VCC (power), 53 GND (power)

## SN74ALVC162836DL
designator U?
20-Bit Universal Bus Driver With 3-State Outputs, DL0056A, TUBE; Generic Part Number: SN74ALVC162836; Manufacturer: Texas Instruments; PartNumber: SN74ALVC162836DL; VCC(Min)(V): 1.65; VCC(Max)(V): 3.6; Output Type: CMOS; ICC @ Nom Voltage(Max)(mA): 0.04; Bits(#): 20; F @ Nom Voltage(Max)(Mhz): 150; Rating: Catalog; Technology Family: ALVC; Voltage(Nom)(V): 1.8,2.5,2.7,3.3; DatasheetVersion: SCES129E; PackageReference: DL0056A; Input Type: CMOS; Operating Temperature Range(C): -40 to 85; Code_JEDEC: MO-118; ComponentLink1Description: Manufacturer URL; ComponentLink1URL: http://www.ti.com/; ComponentLink2Description: Datasheet; ComponentLink2URL: http://www.ti.com/lit/ds/symlink/sn74alvc162836.pdf; ComponentLink3Description: Package Specification; ComponentLink3URL: http://www.ti.com/lit/ml/mpds491/mpds491.pdf
footprint DL0056A_N (SOP, 56-Leads, Body 7.6x18.5mm, Pitch 0.635mm, IPC Medium Density)
footprint DL0056A_M (SOP, 56-Leads, Body 7.6x18.5mm, Pitch 0.635mm, IPC Low Density)
footprint DL0056A_L (SOP, 56-Leads, Body 7.6x18.5mm, Pitch 0.635mm, IPC High Density)
part A pins: 1 ~{OE} (in), 2 Y1 (hiz), 3 Y2 (hiz), 5 Y3 (hiz), 6 Y4 (hiz), 8 Y5 (hiz), 9 Y6 (hiz), 10 Y7 (hiz), 12 Y8 (hiz), 13 Y9 (hiz), 14 Y10 (hiz), 15 Y11 (hiz), 16 Y12 (hiz), 17 Y13 (hiz), 19 Y14 (hiz), 20 Y15 (hiz), 21 Y16 (hiz), 23 Y17 (hiz), 24 Y18 (hiz), 26 Y19 (hiz), 27 Y20 (hiz), 29 ~{LE} (in), 30 A20 (in), 31 A19 (in), 33 A18 (in), 34 A17 (in), 36 A16 (in), 37 A15 (in), 38 A14 (in), 40 A13 (in), 41 A12 (in), 42 A11 (in), 43 A10 (in), 44 A9 (in), 45 A8 (in), 47 A7 (in), 48 A6 (in), 49 A5 (in), 51 A4 (in), 52 A3 (in), 54 A2 (in), 55 A1 (in), 56 CLK (in)
part B pins: 4 GND (power), 7 VCC (power), 11 GND (power), 18 GND (power), 22 VCC (power), 25 GND (power), 28 NC, 32 GND (power), 35 VCC (power), 39 GND (power), 46 GND (power), 50 VCC (power), 53 GND (power)

## SN74ALVCF162834DL
designator U?
3.3-V CMOS 18-Bit Universal Bus Driver with 3-State Outputs, DL0056A, TUBE; Generic Part Number: SN74ALVCF162834; Manufacturer: Texas Instruments; PartNumber: SN74ALVCF162834DL; VCC(Min)(V): 2.3; VCC(Max)(V): 3.6; ICC @ Nom Voltage(Max)(mA): 0.04; Bits(#): 18; F @ Nom Voltage(Max)(Mhz): 150; Rating: Catalog; Technology Family: ALVC; Voltage(Nom)(V): 2.5,2.7,3.3; DatasheetVersion: SCES409B; PackageReference: DL0056A; Output Type: CMOS; Input Type: CMOS; Operating Temperature Range(C): -40 to 85; Code_JEDEC: MO-118; ComponentLink1Description: Manufacturer URL; ComponentLink1URL: http://www.ti.com/; ComponentLink2Description: Datasheet; ComponentLink2URL: http://www.ti.com/lit/ds/symlink/sn74alvcf162834.pdf; ComponentLink3Description: Package Specification; ComponentLink3URL: http://www.ti.com/lit/ml/mpds491/mpds491.pdf
footprint DL0056A_N (SOP, 56-Leads, Body 7.6x18.5mm, Pitch 0.635mm, IPC Medium Density)
footprint DL0056A_M (SOP, 56-Leads, Body 7.6x18.5mm, Pitch 0.635mm, IPC Low Density)
footprint DL0056A_L (SOP, 56-Leads, Body 7.6x18.5mm, Pitch 0.635mm, IPC High Density)
part A pins: 3 Y1 (hiz), 5 Y2 (hiz), 6 Y3 (hiz), 8 Y4 (hiz), 9 Y5 (hiz), 10 Y6 (hiz), 12 Y7 (hiz), 13 Y8 (hiz), 14 Y9 (hiz), 15 Y10 (hiz), 16 Y11 (hiz), 17 Y12 (hiz), 19 Y13 (hiz), 20 Y14 (hiz), 21 Y15 (hiz), 23 Y16 (hiz), 24 Y17 (hiz), 26 Y18 (hiz), 27 ~{OE} (in), 28 ~{LE} (in), 30 CLK (in), 31 A18 (in), 33 A17 (in), 34 A16 (in), 36 A15 (in), 37 A14 (in), 38 A13 (in), 40 A12 (in), 41 A11 (in), 42 A10 (in), 43 A9 (in), 44 A8 (in), 45 A7 (in), 47 A6 (in), 48 A5 (in), 49 A4 (in), 51 A3 (in), 52 A2 (in), 54 A1 (in)
part B pins: 1 NC, 2 NC, 4 GND (power), 7 VCC (power), 11 GND (power), 18 GND (power), 22 VCC (power), 25 GND (power), 29 GND (power), 32 GND (power), 35 VCC (power), 39 GND (power), 46 GND (power), 50 VCC (power), 53 GND (power), 55 NC, 56 GND (power)

## SN74ALVCF162834GR
designator U?
3.3-V CMOS 18-Bit Universal Bus Driver with 3-State Outputs, DGG0056A, LARGE T&R; Generic Part Number: SN74ALVCF162834; Manufacturer: Texas Instruments; PartNumber: SN74ALVCF162834GR; VCC(Min)(V): 2.3; VCC(Max)(V): 3.6; ICC @ Nom Voltage(Max)(mA): 0.04; Bits(#): 18; F @ Nom Voltage(Max)(Mhz): 150; Rating: Catalog; Technology Family: ALVC; Voltage(Nom)(V): 2.5,2.7,3.3; DatasheetVersion: SCES409B; PackageReference: DGG0056A; Output Type: CMOS; Input Type: CMOS; Operating Temperature Range(C): -40 to 85; Code_JEDEC: MO-153; ComponentLink1Description: Manufacturer URL; ComponentLink1URL: http://www.ti.com/; ComponentLink2Description: Datasheet; ComponentLink2URL: http://www.ti.com/lit/ds/symlink/sn74alvcf162834.pdf; ComponentLink3Description: Package Specification; ComponentLink3URL: http://www.ti.com/lit/ml/mtss003d/mtss003d.pdf
footprint DGG0056A_N (TSSOP, 56-Leads, Body 14.1x6.2mm, Pitch 0.5mm, IPC Medium Density)
footprint DGG0056A_M (TSSOP, 56-Leads, Body 14.1x6.2mm, Pitch 0.5mm, IPC Low Density)
footprint DGG0056A_L (TSSOP, 56-Leads, Body 14.1x6.2mm, Pitch 0.5mm, IPC High Density)
part A pins: 3 Y1 (hiz), 5 Y2 (hiz), 6 Y3 (hiz), 8 Y4 (hiz), 9 Y5 (hiz), 10 Y6 (hiz), 12 Y7 (hiz), 13 Y8 (hiz), 14 Y9 (hiz), 15 Y10 (hiz), 16 Y11 (hiz), 17 Y12 (hiz), 19 Y13 (hiz), 20 Y14 (hiz), 21 Y15 (hiz), 23 Y16 (hiz), 24 Y17 (hiz), 26 Y18 (hiz), 27 ~{OE} (in), 28 ~{LE} (in), 30 CLK (in), 31 A18 (in), 33 A17 (in), 34 A16 (in), 36 A15 (in), 37 A14 (in), 38 A13 (in), 40 A12 (in), 41 A11 (in), 42 A10 (in), 43 A9 (in), 44 A8 (in), 45 A7 (in), 47 A6 (in), 48 A5 (in), 49 A4 (in), 51 A3 (in), 52 A2 (in), 54 A1 (in)
part B pins: 1 NC, 2 NC, 4 GND (power), 7 VCC (power), 11 GND (power), 18 GND (power), 22 VCC (power), 25 GND (power), 29 GND (power), 32 GND (power), 35 VCC (power), 39 GND (power), 46 GND (power), 50 VCC (power), 53 GND (power), 55 NC, 56 GND (power)

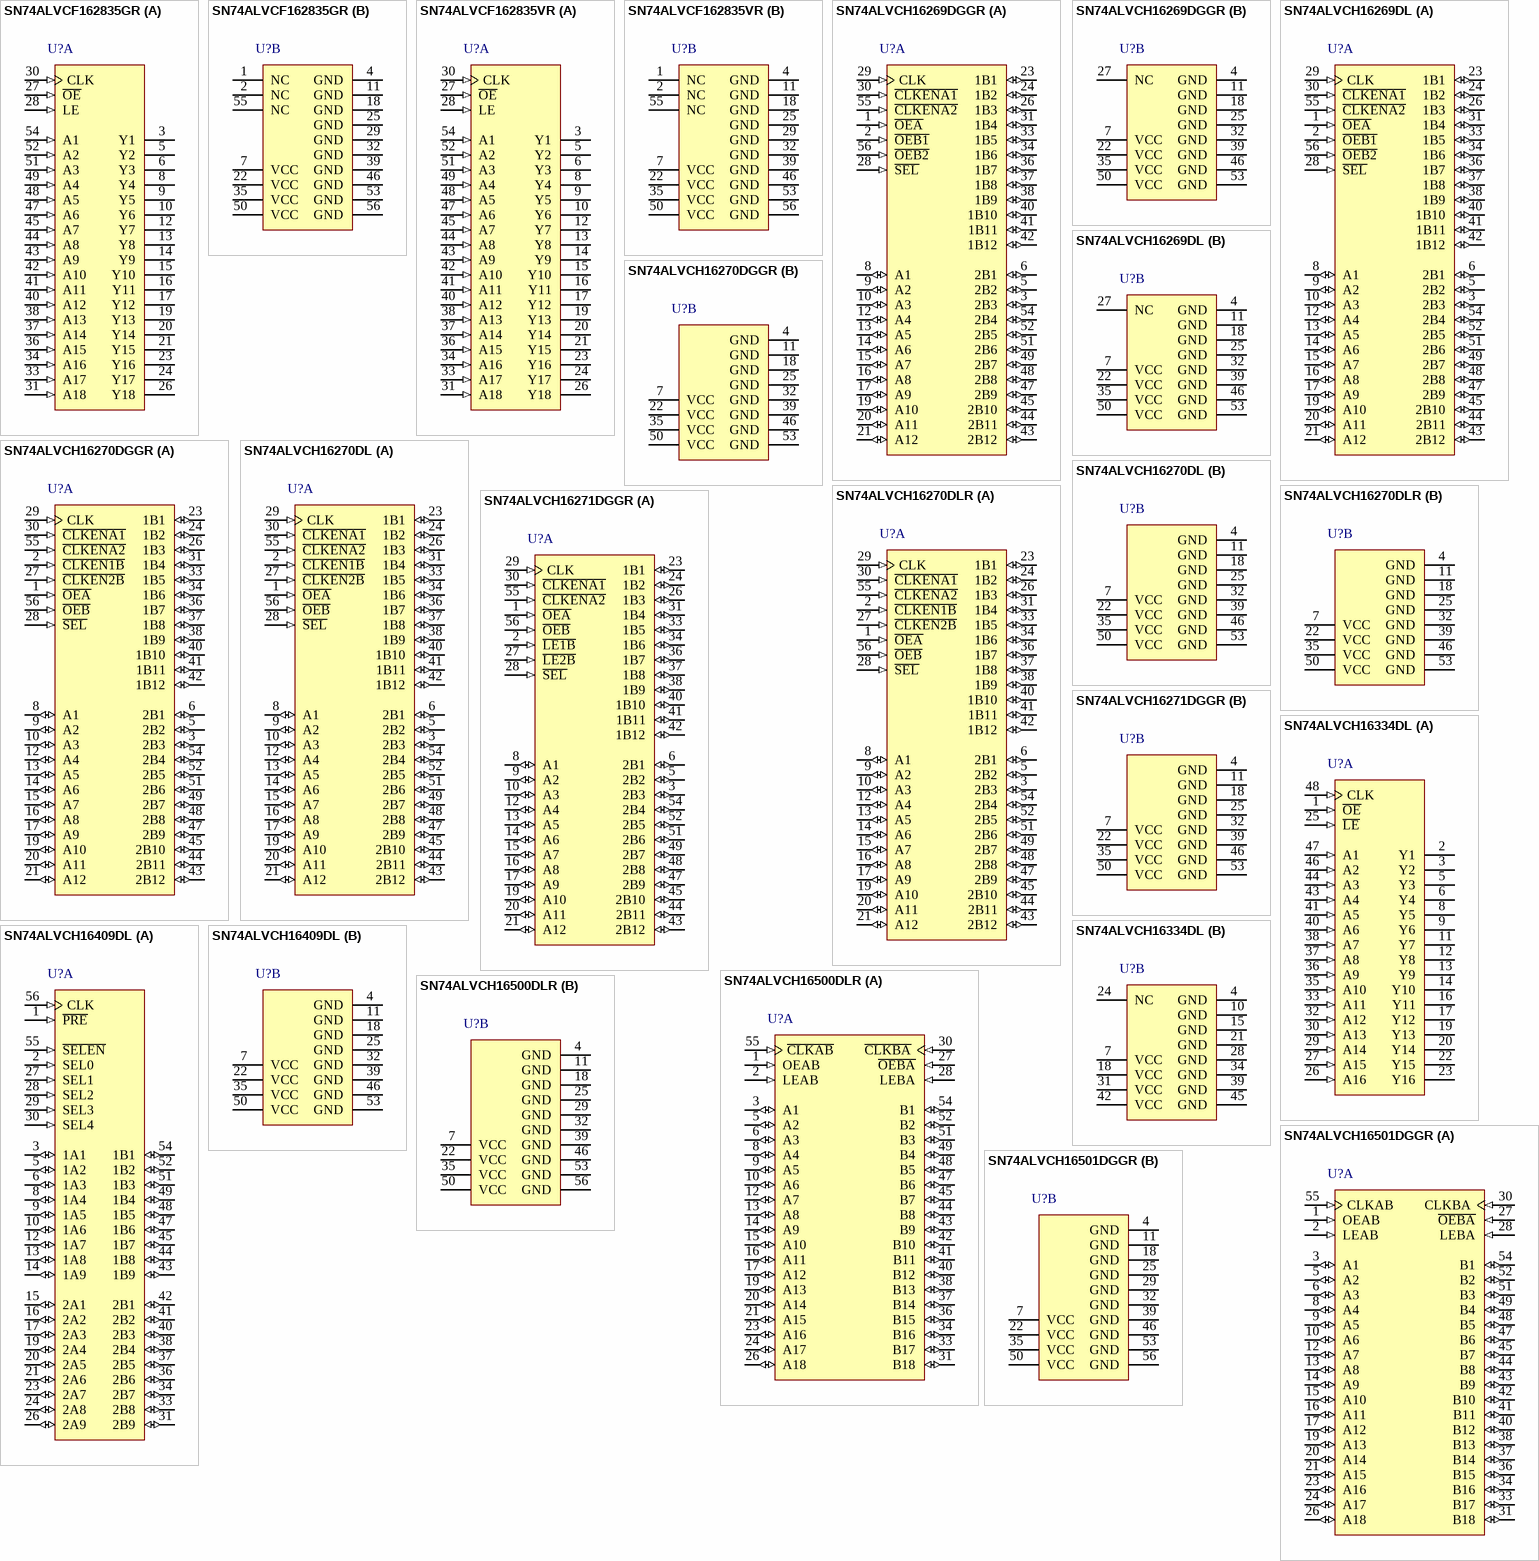
[diagram p4: symbols SN74ALVCF162835GR to SN74ALVCH16501DGGR]

## SN74ALVCF162835GR
designator U?
3.3-V CMOS 18-Bit Universal Bus Driver with 3-State Outputs, DGG0056A, LARGE T&R; Generic Part Number: SN74ALVCF162835; Manufacturer: Texas Instruments; PartNumber: SN74ALVCF162835GR; VCC(Min)(V): 2.3; VCC(Max)(V): 3.6; ICC @ Nom Voltage(Max)(mA): 0.04; Bits(#): 18; F @ Nom Voltage(Max)(Mhz): 150; Rating: Catalog; Technology Family: ALVC; Voltage(Nom)(V): 2.5,2.7,3.3; DatasheetVersion: SCES397A; PackageReference: DGG0056A; Output Type: CMOS; Input Type: CMOS; Operating Temperature Range(C): -40 to 85; Code_JEDEC: MO-153; ComponentLink1Description: Manufacturer URL; ComponentLink1URL: http://www.ti.com/; ComponentLink2Description: Datasheet; ComponentLink2URL: http://www.ti.com/lit/ds/symlink/sn74alvcf162835.pdf; ComponentLink3Description: Package Specification; ComponentLink3URL: http://www.ti.com/lit/ml/mtss003d/mtss003d.pdf
footprint DGG0056A_N (TSSOP, 56-Leads, Body 14.1x6.2mm, Pitch 0.5mm, IPC Medium Density)
footprint DGG0056A_M (TSSOP, 56-Leads, Body 14.1x6.2mm, Pitch 0.5mm, IPC Low Density)
footprint DGG0056A_L (TSSOP, 56-Leads, Body 14.1x6.2mm, Pitch 0.5mm, IPC High Density)
part A pins: 3 Y1 (hiz), 5 Y2 (hiz), 6 Y3 (hiz), 8 Y4 (hiz), 9 Y5 (hiz), 10 Y6 (hiz), 12 Y7 (hiz), 13 Y8 (hiz), 14 Y9 (hiz), 15 Y10 (hiz), 16 Y11 (hiz), 17 Y12 (hiz), 19 Y13 (hiz), 20 Y14 (hiz), 21 Y15 (hiz), 23 Y16 (hiz), 24 Y17 (hiz), 26 Y18 (hiz), 27 ~{OE} (in), 28 LE (in), 30 CLK (in), 31 A18 (in), 33 A17 (in), 34 A16 (in), 36 A15 (in), 37 A14 (in), 38 A13 (in), 40 A12 (in), 41 A11 (in), 42 A10 (in), 43 A9 (in), 44 A8 (in), 45 A7 (in), 47 A6 (in), 48 A5 (in), 49 A4 (in), 51 A3 (in), 52 A2 (in), 54 A1 (in)
part B pins: 1 NC, 2 NC, 4 GND (power), 7 VCC (power), 11 GND (power), 18 GND (power), 22 VCC (power), 25 GND (power), 29 GND (power), 32 GND (power), 35 VCC (power), 39 GND (power), 46 GND (power), 50 VCC (power), 53 GND (power), 55 NC, 56 GND (power)

## SN74ALVCF162835VR
designator U?
3.3-V CMOS 18-Bit Universal Bus Driver with 3-State Outputs, DGV0056A, LARGE T&R; Generic Part Number: SN74ALVCF162835; Manufacturer: Texas Instruments; PartNumber: SN74ALVCF162835VR; VCC(Min)(V): 2.3; VCC(Max)(V): 3.6; ICC @ Nom Voltage(Max)(mA): 0.04; Bits(#): 18; F @ Nom Voltage(Max)(Mhz): 150; Rating: Catalog; Technology Family: ALVC; Voltage(Nom)(V): 2.5,2.7,3.3; DatasheetVersion: SCES397A; PackageReference: DGV0056A; Output Type: CMOS; Input Type: CMOS; Operating Temperature Range(C): -40 to 85; Code_JEDEC: MO-194; ComponentLink1Description: Manufacturer URL; ComponentLink1URL: http://www.ti.com/; ComponentLink2Description: Datasheet; ComponentLink2URL: http://www.ti.com/lit/ds/symlink/sn74alvcf162835.pdf; ComponentLink3Description: Package Specification; ComponentLink3URL: http://www.ti.com/lit/ml/mpds006c/mpds006c.pdf
footprint DGV0056A_N (SOP, 56-Leads, Body 4.5x11.4mm, Pitch 0.4mm, IPC Medium Density)
footprint DGV0056A_M (SOP, 56-Leads, Body 4.5x11.4mm, Pitch 0.4mm, IPC Low Density)
footprint DGV0056A_L (SOP, 56-Leads, Body 4.5x11.4mm, Pitch 0.4mm, IPC High Density)
part A pins: 3 Y1 (hiz), 5 Y2 (hiz), 6 Y3 (hiz), 8 Y4 (hiz), 9 Y5 (hiz), 10 Y6 (hiz), 12 Y7 (hiz), 13 Y8 (hiz), 14 Y9 (hiz), 15 Y10 (hiz), 16 Y11 (hiz), 17 Y12 (hiz), 19 Y13 (hiz), 20 Y14 (hiz), 21 Y15 (hiz), 23 Y16 (hiz), 24 Y17 (hiz), 26 Y18 (hiz), 27 ~{OE} (in), 28 LE (in), 30 CLK (in), 31 A18 (in), 33 A17 (in), 34 A16 (in), 36 A15 (in), 37 A14 (in), 38 A13 (in), 40 A12 (in), 41 A11 (in), 42 A10 (in), 43 A9 (in), 44 A8 (in), 45 A7 (in), 47 A6 (in), 48 A5 (in), 49 A4 (in), 51 A3 (in), 52 A2 (in), 54 A1 (in)
part B pins: 1 NC, 2 NC, 4 GND (power), 7 VCC (power), 11 GND (power), 18 GND (power), 22 VCC (power), 25 GND (power), 29 GND (power), 32 GND (power), 35 VCC (power), 39 GND (power), 46 GND (power), 50 VCC (power), 53 GND (power), 55 NC, 56 GND (power)